# EAGLE library part MEM_M25PE40 (library akita)
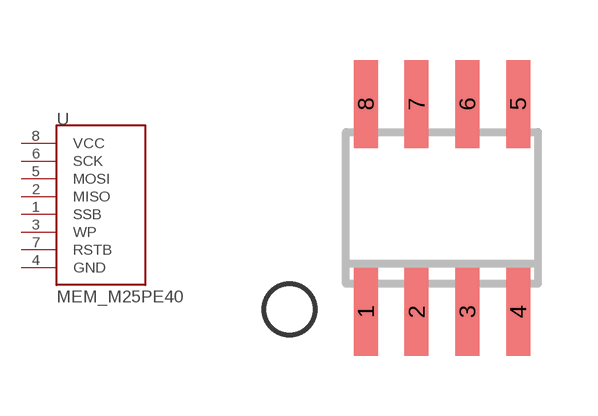
[diagram p41: symbol with the pads of SO08; footprint SO08]

Designator prefix U

## MEM_M25PE40  [SO08]
1  SSB
2  MISO
3  WP
4  GND
5  MOSI
6  SCK
7  RSTB
8  VCC

## Footprint SO08 (pad centres in mm)
SMALL OUTLINE INTEGRATED CIRCUIT body 3.9 mm/JEDEC MS-012AA
smd 0.6 x 2.2: 1 -1.905,-2.6; 2 -0.635,-2.6; 3 0.635,-2.6; 4 1.905,-2.6; 5 1.905,2.6; 6 0.635,2.6; 7 -0.635,2.6; 8 -1.905,2.6